# Altium schematic symbol library Single Board Computers (SBCs), Computer On Module (COM).SchLib: 1 symbol
Pins are listed as number, name and electrical type; pins without a type are passive.

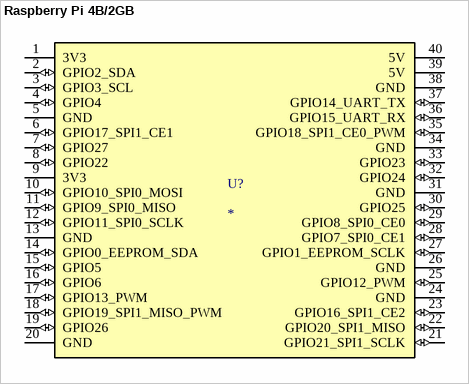
[diagram p0: symbol Raspberry Pi 4B/2GB]

## Raspberry Pi 4B/2GB
designator U?
RASPBERRY PI 4 MODEL B 2GB SDRAM; Supplier 1: Digi-Key; Supplier Part Number 1: 1690-RASPBERRYPI4B/2GB-ND
footprint RASPBERRY_PI_4B
pins: 1 3V3, 2 GPIO2_SDA (io), 3 GPIO3_SCL (io), 4 GPIO4 (io), 5 GND, 6 GPIO17_SPI1_CE1 (io), 7 GPIO27 (io), 8 GPIO22 (io), 9 3V3, 10 GPIO10_SPI0_MOSI (io), 11 GPIO9_SPI0_MISO (io), 12 GPIO11_SPI0_SCLK (io), 13 GND, 14 GPIO0_EEPROM_SDA (io), 15 GPIO5 (io), 16 GPIO6 (io), 17 GPIO13_PWM (io), 18 GPIO19_SPI1_MISO_PWM (io), 19 GPIO26 (io), 20 GND, 21 GPIO21_SPI1_SCLK (io), 22 GPIO20_SPI1_MISO (io), 23 GPIO16_SPI1_CE2 (io), 24 GND, 25 GPIO12_PWM (io), 26 GND, 27 GPIO1_EEPROM_SCLK (io), 28 GPIO7_SPI0_CE1 (io), 29 GPIO8_SPI0_CE0 (io), 30 GPIO25 (io), 31 GND, 32 GPIO24 (io), 33 GPIO23 (io), 34 GND, 35 GPIO18_SPI1_CE0_PWM (io), 36 GPIO15_UART_RX (io), 37 GPIO14_UART_TX (io), 38 GND, 39 5V, 40 5V